# Altium schematic symbol library NRF52832-QFAA-R.SchLib: 1 symbol
Pins are listed as number, name and electrical type; pins without a type are passive.

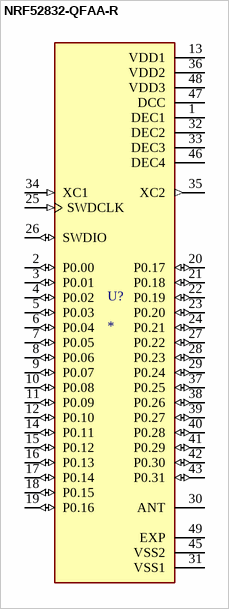
[diagram p0: symbol NRF52832-QFAA-R]

## NRF52832-QFAA-R
designator U?
Bluetooth SMART SOC IoT 2000Mbps 48-Pin QFN EP T/R; MP: NRF52832-QFAA-R; Package: None; Value: *; Availability: Unavailable; Price: None
footprint QFN40P600X600X90-49N
pins: 1 DEC1 (power), 2 P0.00 (io), 3 P0.01 (io), 4 P0.02 (io), 5 P0.03 (io), 6 P0.04 (io), 7 P0.05 (io), 8 P0.06 (io), 9 P0.07 (io), 10 P0.08 (io), 11 P0.09 (io), 12 P0.10 (io), 13 VDD1 (power), 14 P0.11 (io), 15 P0.12 (io), 16 P0.13 (io), 17 P0.14 (io), 18 P0.15 (io), 19 P0.16 (io), 20 P0.17 (io), 21 P0.18 (io), 22 P0.19 (io), 23 P0.20 (io), 24 P0.21 (io), 25 SWDCLK (in), 26 SWDIO (io), 27 P0.22 (io), 28 P0.23 (io), 29 P0.24 (io), 30 ANT, 31 VSS1 (power), 32 DEC2 (power), 33 DEC3 (power), 34 XC1 (in), 35 XC2 (out), 36 VDD2 (power), 37 P0.25 (io), 38 P0.26 (io), 39 P0.27 (io), 40 P0.28 (io), 41 P0.29 (io), 42 P0.30 (io), 43 P0.31 (io), 45 VSS2 (power), 46 DEC4 (power), 47 DCC (power), 48 VDD3 (power), 49 EXP (power)